# Altium footprint library FUSE.PcbLib: 9 footprints
Each footprint in its own frame and in the unit in brackets; x right, y up, seen from the top. Pads: shape width x height; smd on the part's side, far side on the other; paste and mask are expansions set on the pad; w line width, h text height; cw(c..) or ccw(c..) is an arc to the next point about the centre after c.
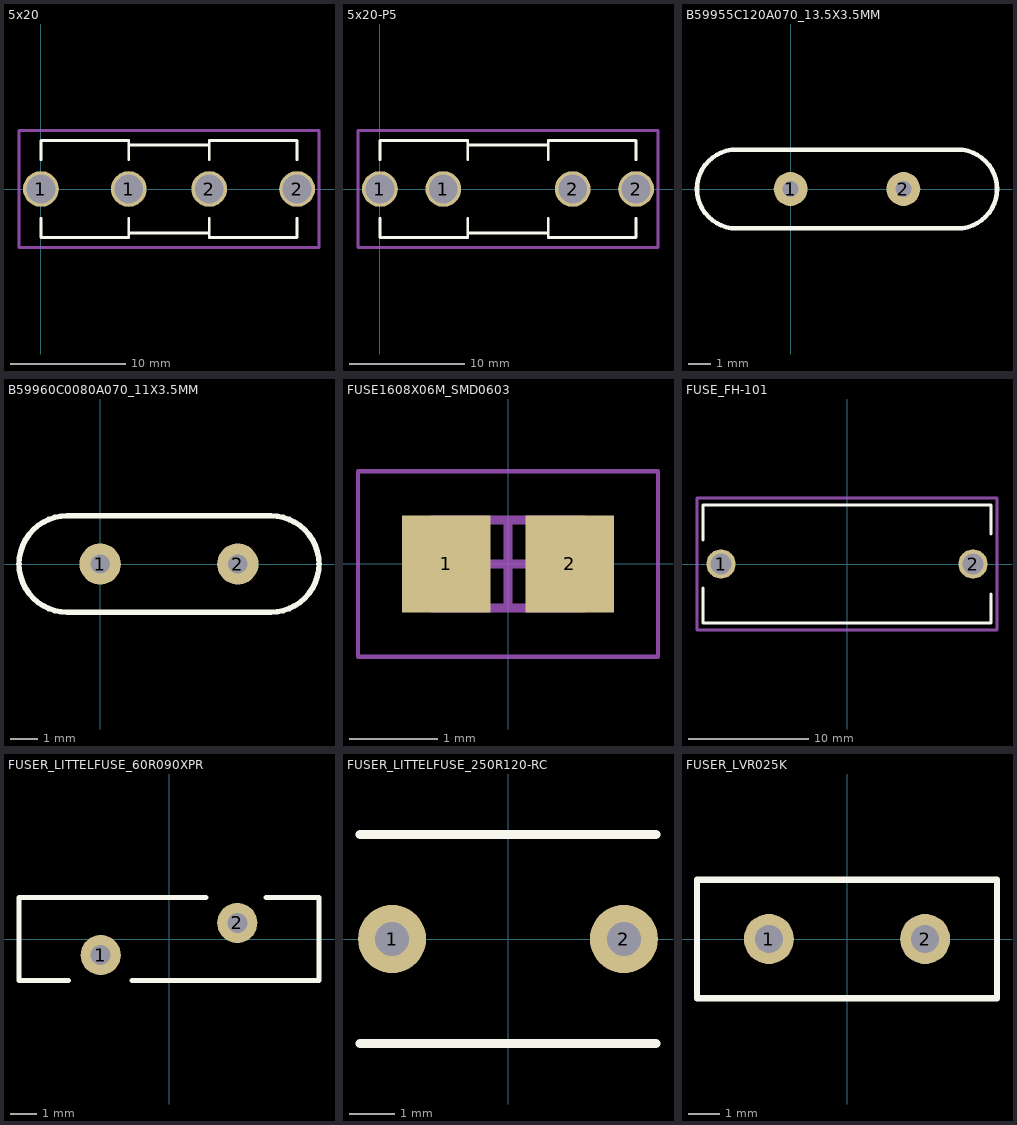
[diagram p0: the footprints below, top view; thin cyan lines are the x and y axes]

## 5x20 [mm]
pads (4):
  round 3.1 hole 2.5: 1(0,0) 1(7.62,0) 2(14.605,0) 2(22.225,0)
Top Overlay:
  lines w0.254: 0,-2.54 0,-4.191 7.62,-4.191 7.62,-2.54 ; 0,2.54 0,4.191 7.62,4.191 7.62,2.54 ; 7.62,-3.81 14.605,-3.81 ; 7.62,3.81 14.605,3.81 ; 14.605,-2.54 14.605,-4.191 22.225,-4.191 22.225,-2.54 ; 14.605,2.54 14.605,4.191 22.225,4.191 22.225,2.54
Mechanical 15:
  lines w0.254: -1.905,-5.08 24.13,-5.08 24.13,5.08 -1.905,5.08 -1.905,-5.08
3D body: height 10, standoff 0, extent 0,-4.191 22.225,4.191

## 5x20-P5 [mm]
pads (4):
  round 3.1 hole 2.5: 1(0,0) 1(5.5,0) 2(16.725,0) 2(22.225,0)
Top Overlay:
  lines w0.254: 0,-2.54 0,-4.191 7.62,-4.191 7.62,-2.54 ; 0,2.54 0,4.191 7.62,4.191 7.62,2.54 ; 7.62,-3.81 14.605,-3.81 ; 7.62,3.81 14.605,3.81 ; 14.605,-2.54 14.605,-4.191 22.225,-4.191 22.225,-2.54 ; 14.605,2.54 14.605,4.191 22.225,4.191 22.225,2.54
Mechanical 15:
  lines w0.254: -1.905,-5.08 -1.905,5.08 24.13,5.08 24.13,-5.08 -1.905,-5.08
3D body: height 10, standoff 0, extent 0,-4.191 22.225,4.191

## B59955C120A070_13.5X3.5MM [mm] "Radial, Disc 13.50mm x 3.50mm"
height 17
pads (2):
  round 1.5 hole 0.7: 1(0,0) 2(5,0)
Top Overlay:
  lines w0.2: -2.4,-1.75 cw(c-2.4,0) -2.4,1.75 7.4,1.75 cw(c7.4,0) 7.4,-1.75 -2.4,-1.75
3D body: height 15.75, standoff 2.25, extent -4.247,-1.7 9.247,1.8

## B59960C0080A070_11X3.5MM [mm] "Radial, Disc 11.00mm x 3.50mm"
height 14.5
pads (2):
  round 1.5 hole 0.7: 1(0,0) 2(5,0)
Top Overlay:
  lines w0.2: -1.2,-1.75 cw(c-1.2,0) -1.2,1.75 6.2,1.75 cw(c6.2,0) 6.2,-1.75 -1.2,-1.75
3D body: height 12.5, standoff 1.5, extent -3,-1.7 8,1.8

## FUSE1608X06M_SMD0603 [mm] "Chip Resistor, 2-Leads, Body 1,57x0,85mm, IPC Low Density"
height 0.61
pads (2):
  rect 1x1.1 smd: 1(-0.7,0) 2(0.7,0)
3d body:
  lines w0.1: -0.865,-0.5 0.865,-0.5 0.865,0.5 -0.865,0.5 -0.865,-0.5
Mechanical 15:
  lines w0.05: -1.7,-1.05 1.7,-1.05 1.7,1.05 -1.7,1.05 -1.7,-1.05
  lines w0.1: -0.5,0 0.5,0 ; 0,-0.5 0,0.5
3D body: height 0.61, standoff 0, extent 0.465,-0.5 0.865,0.5
3D body: height 0.61, standoff 0, extent -0.865,-0.5 -0.465,0.5
3D body: height 0.61, standoff 0, extent -0.465,-0.5 0.465,0.5

## FUSE_FH-101 [mm] "Fuse holder 5.2x20mm"
pads (2):
  round 2.45 hole 1.75: 1(-10.5,0) 2(10.5,0)
Top Overlay:
  lines w0.254: -12,-2 -12,-4.9 ; -12,2 -12,4.9 ; 12,-2.5 12,-4.9 ; 12,2.5 12,4.9 ; -12,-4.9 -12,-4.9 ; -12,-4.9 12,-4.9 ; -12,4.9 -12,4.9 ; -12,4.9 12,4.9 ; 12,-4.9 12,-4.9 ; 12,4.9 12,4.9
Mechanical 15:
  lines w0.254: -12.5,-5.5 12.5,-5.5 12.5,5.5 -12.5,5.5 -12.5,-5.5
3D body: height 10, standoff 0, extent -12,-4.9 12,4.9

## FUSER_LITTELFUSE_60R090XPR [mm] "Radial, Disc 11.20mm x 3.10mm"
height 11.2
pads (2):
  round 1.5 hole 0.75: 1(-2.55,-0.6) 2(2.55,0.6)
Top Overlay:
  lines w0.2: -3.75,-1.55 -5.6,-1.55 -5.6,1.55 1.375,1.55 ; -1.375,-1.55 5.6,-1.55 5.6,1.55 3.625,1.55
3D body: height 11.6, standoff 0.4, extent -5.597,-1.55 5.597,1.55

## FUSER_LITTELFUSE_250R120-RC [mm] "Rectangle 6.5mm x 4.6mm"
height 11
pads (2):
  round 1.5 hole 0.75: 1(-2.55,0) 2(2.55,0)
Top Overlay:
  lines w0.2: -3.25,-2.3 3.25,-2.3 ; -3.25,2.3 3.25,2.3
3D body: height 11, standoff 0, extent -3.25,-2.3 3.25,2.3

## FUSER_LVR025K [mm]
pads (2):
  round 1.6 hole 0.9: 1(-2.5,0) 2(2.5,0)
Top Overlay:
  lines w0.2: -4.8,-1.9 4.8,-1.9 4.8,1.9 -4.8,1.9 -4.8,0 -4.8,-1.9
3D body: height 18.8, standoff 4, extent -4.8,-1.9 4.8,1.9
3D body: height 7, standoff -3, extent 2.153,-0.349 2.85,0.349
3D body: height 7, standoff -3, extent -2.847,-0.349 -2.15,0.35